# EAGLE library part GPS_CONNECTOR (library SparkFun-Connectors)
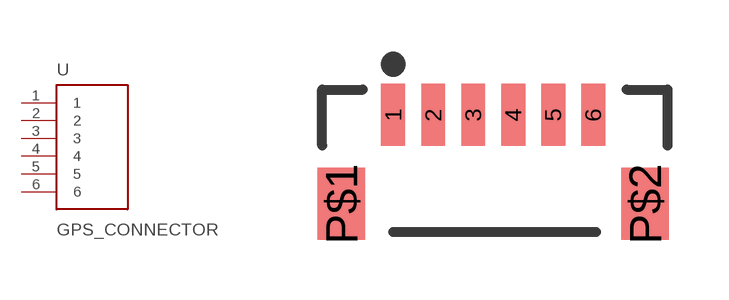
[diagram p74: symbol with the pads of VERTICAL_6-PIN_JST; footprint VERTICAL_6-PIN_JST]

Designator prefix -

## GPS_CONNECTOR  [VERTICAL_6-PIN_JST]
1  1
2  2
3  3
4  4
5  5
6  6

## Footprint VERTICAL_6-PIN_JST (pad centres in mm)
smd 0.6 x 1.55: 1 -2.54,1.27; 2 -1.54,1.27; 3 -0.54,1.27; 4 0.46,1.27; 5 1.46,1.27; 6 2.46,1.27
smd 1.2 x 1.8: P$1 -3.84,-0.955; P$2 3.76,-0.955